# EAGLE library part 74HC4040 (library 07-Retrocomputing)
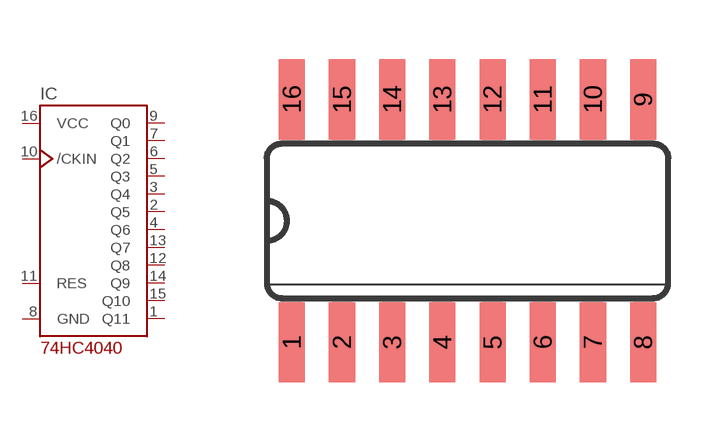
[diagram p35: symbol with the pads of SO16; footprint SO16]

Designator prefix IC

## 74HC4040D  [SO16]
1  Q11
2  Q5
3  Q4
4  Q6
5  Q3
6  Q2
7  Q1
8  GND
9  Q0
10  /CKIN
11  RES
12  Q8
13  Q7
14  Q9
15  Q10
16  VCC

## Footprint SO16 (pad centres in mm)
Small Outline package 150 mil
smd 0.66 x 2.032: 1 -4.445,-3.073; 2 -3.175,-3.073; 3 -1.905,-3.073; 4 -0.635,-3.073; 5 0.635,-3.073; 6 1.905,-3.073; 7 3.175,-3.073; 8 4.445,-3.073; 9 4.445,3.073; 10 3.175,3.073; 11 1.905,3.073; 12 0.635,3.073; 13 -0.635,3.073; 14 -1.905,3.073; 15 -3.175,3.073; 16 -4.445,3.073